# Altium schematic symbol library diploma.SchLib: 43 symbols
Pins are listed as number, name and electrical type; pins without a type are passive.

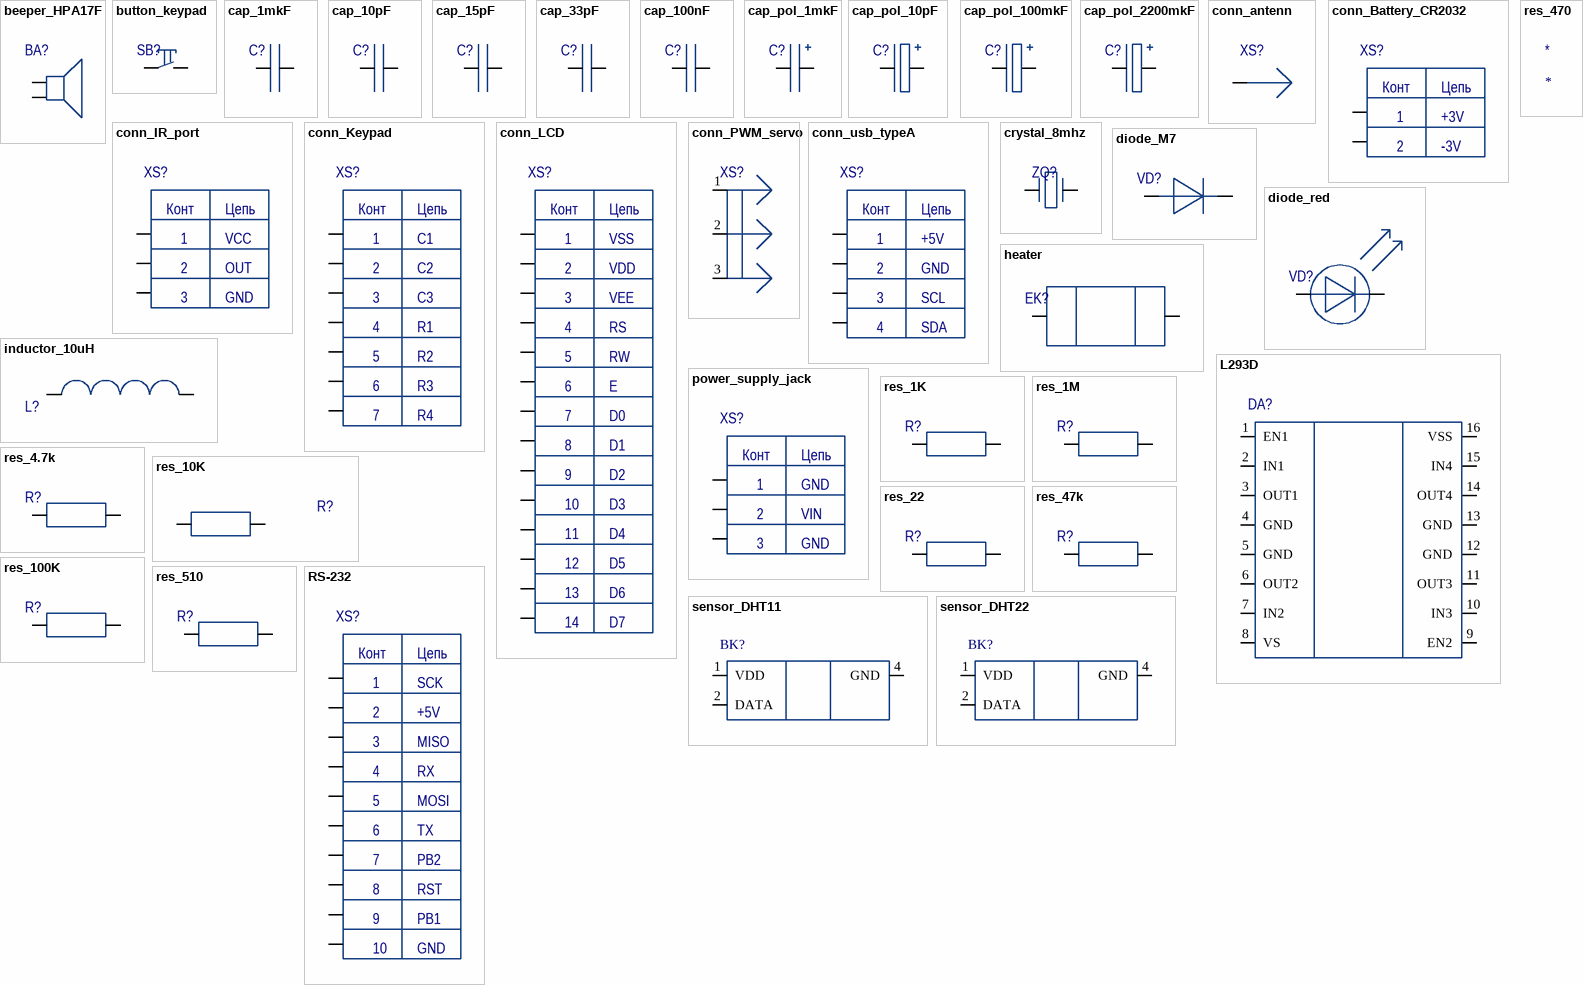
[diagram p0: symbols beeper_HPA17F to sensor_DHT22]

## beeper_HPA17F
designator BA?  (value not drawn)
pins: 1, 2

## button_keypad
designator SB?  (value not drawn)
pins: 1, 2

## cap_1mkF
designator C?  (value not drawn)
pins: 1, 2

## cap_10pF
designator C?  (value not drawn)
pins: 1, 2

## cap_15pF
designator C?  (value not drawn)
pins: 1, 2

## cap_33pF
designator C?  (value not drawn)
pins: 1, 2

## cap_100nF
designator C?  (value not drawn)
pins: 1, 2

## cap_pol_1mkF
designator С?  (value not drawn)
pins: 1, 2

## cap_pol_10pF
designator C?  (value not drawn)
pins: 1, 2

## cap_pol_100mkF
designator C?  (value not drawn)
pins: 1, 2

## cap_pol_2200mkF
designator C?  (value not drawn)
pins: 1, 2

## conn_antenn
designator XS?  (value not drawn)
pins: 1

## conn_Battery_CR2032
designator XS?  (value not drawn)
pins: 1 VCC, 2
text: Конт; Цепь; +3V; -3V

## conn_IR_port
designator XS?, comment VS1833B  (value not drawn)
pins: 1 VCC, 2 OUT, 3 GND
text: Конт; Цепь

## conn_Keypad
designator XS?  (value not drawn)
pins: 1 VSS, 2 VDD, 3 VO, 4 C/D, 5 *RD, 6 *WR, 7 D0
text: Конт; Цепь; C1; C2; C3; R1; R2; R3; R4

## conn_LCD
designator XS?  (value not drawn)
pins: 1 VSS, 2 VDD, 3 VO, 4 C/D, 5 *RD, 6 *WR, 7 D0, 8 D1, 9 D2, 10 D3, 11 D4, 12 D5, 13 D6, 14 D7
text: Конт; Цепь; VEE; RS; RW; E

## conn_PWM_servo
designator XS?  (value not drawn)
pins: 1, 2, 3

## conn_usb_typeA
designator XS?  (value not drawn)
pins: 1 +5V, 2 GND, 3 SCL, 4 SDA
text: Конт; Цепь

## crystal_8mhz
designator ZQ?  (value not drawn)
pins: 1, 2

## diode_M7
designator VD?  (value not drawn)
pins: 1, 2

## diode_red
designator VD?  (value not drawn)
pins: 1, 2

## heater
designator EK?  (value not drawn)
pins: 1, 2

## inductor_10uH
designator L?  (value not drawn)
pins: 1, 2

## L293D
designator DA?  (value not drawn)
pins: 1 EN1, 2 IN1, 3 OUT1, 4 GND, 5 GND, 6 OUT2, 7 IN2, 8 VS, 9 EN2, 10 IN3, 11 OUT3, 12 GND, 13 GND, 14 OUT4, 15 IN4, 16 VSS

## power_supply_jack
designator XS?  (value not drawn)
pins: 1 +5V, 2 GND, 3 SCL
text: Конт; Цепь; VIN

## res_1K
designator R?  (value not drawn)
pins: 1, 2

## res_1M
designator R?  (value not drawn)
pins: 1, 2

## res_4.7k
designator R?  (value not drawn)
pins: 1, 2

## res_10K
designator R?  (value not drawn)
pins: 1, 2

## res_22
designator R?  (value not drawn)
pins: 1, 2

## res_47k
designator R?  (value not drawn)
pins: 1, 2

## res_100K
designator R?  (value not drawn)
pins: 1, 2

## res_470
designator *

## res_510
designator R?  (value not drawn)
pins: 1, 2

## RS-232
designator XS?, comment BH-10  (value not drawn)
pins: 1 VSS, 2 VDD, 3 VO, 4 C/D, 5 *RD, 6 *WR, 7 D0, 8 D1, 9 D2, 10 D3
text: Конт; Цепь; SCK; +5V; MISO; RX; MOSI; TX; PB2; RST; PB1; GND

## sensor_DHT11
designator BK?  (value not drawn)
pins: 1 VDD, 2 DATA, 3 NC hidden, 4 GND

## sensor_DHT22
designator BK?  (value not drawn)
pins: 1 VDD, 2 DATA, 3 NC hidden, 4 GND

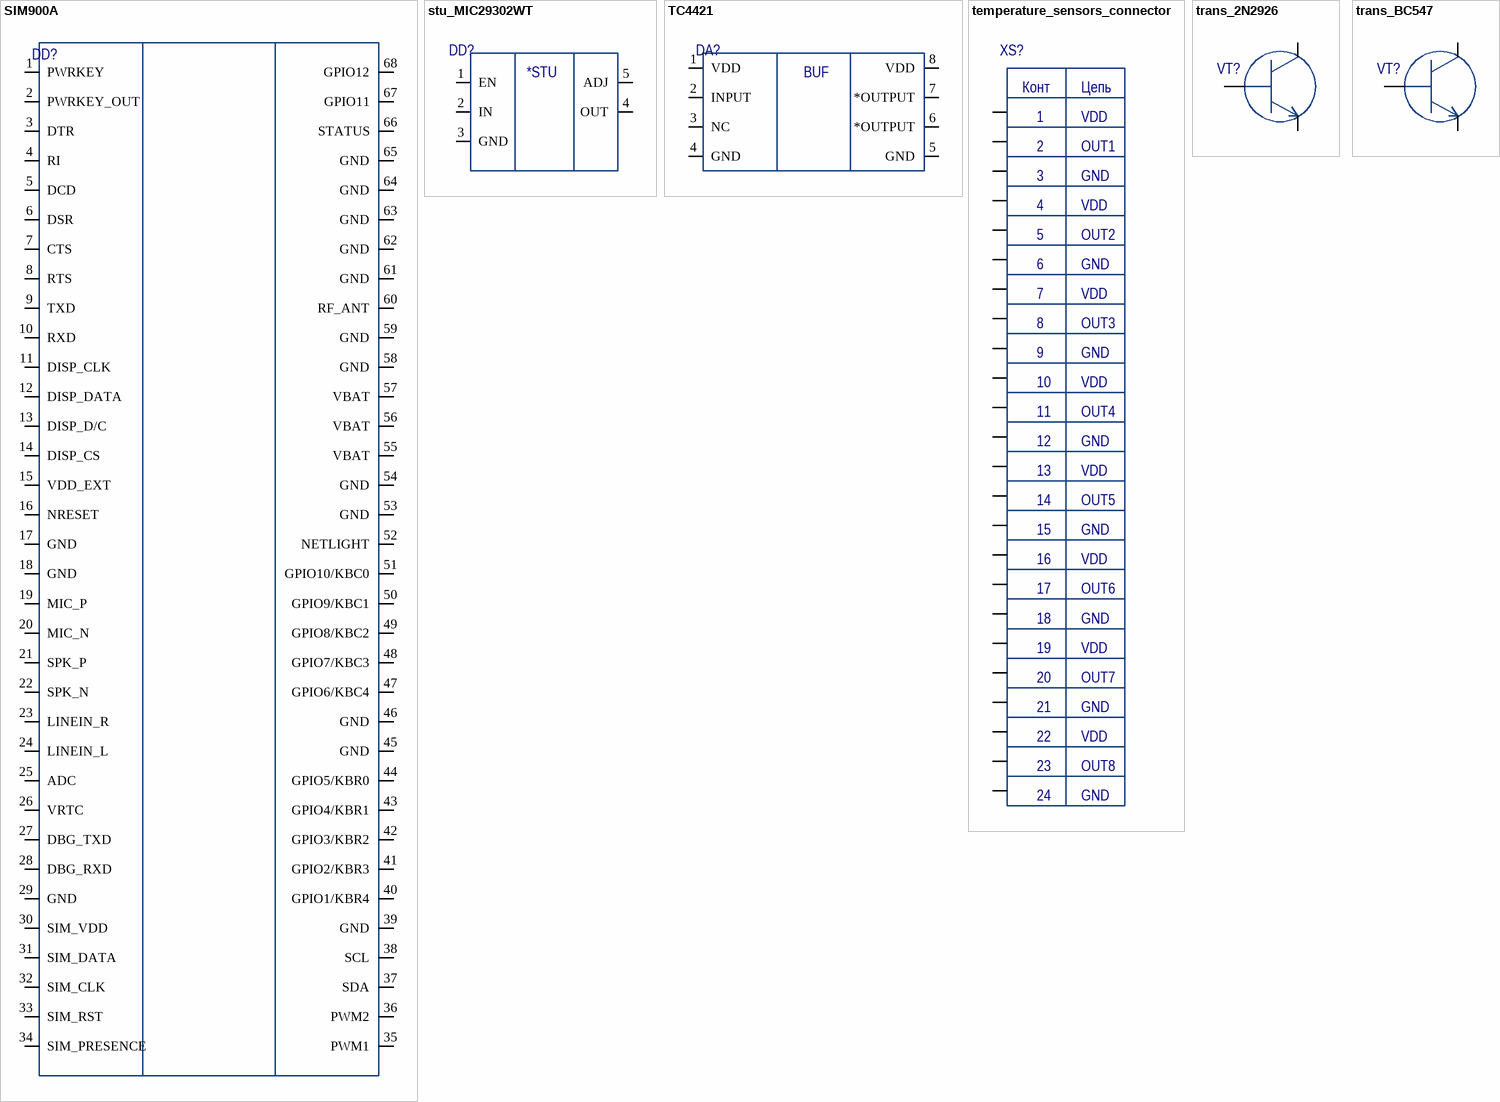
[diagram p1: symbols SIM900A to trans_BC547]

## SIM900A
designator DD?  (value not drawn)
pins: 1 PWRKEY, 2 PWRKEY_OUT, 3 DTR, 4 RI, 5 DCD, 6 DSR, 7 CTS, 8 RTS, 9 TXD, 10 RXD, 11 DISP_CLK, 12 DISP_DATA, 13 DISP_D/C, 14 DISP_CS, 15 VDD_EXT, 16 NRESET, 17 GND, 18 GND, 19 MIC_P, 20 MIC_N, 21 SPK_P, 22 SPK_N, 23 LINEIN_R, 24 LINEIN_L, 25 ADC, 26 VRTC, 27 DBG_TXD, 28 DBG_RXD, 29 GND, 30 SIM_VDD, 31 SIM_DATA, 32 SIM_CLK, 33 SIM_RST, 34 SIM_PRESENCE, 35 PWM1, 36 PWM2, 37 SDA, 38 SCL, 39 GND, 40 GPIO1/KBR4, 41 GPIO2/KBR3, 42 GPIO3/KBR2, 43 GPIO4/KBR1, 44 GPIO5/KBR0, 45 GND, 46 GND, 47 GPIO6/KBC4, 48 GPIO7/KBC3, 49 GPIO8/KBC2, 50 GPIO9/KBC1, 51 GPIO10/KBC0, 52 NETLIGHT, 53 GND, 54 GND, 55 VBAT, 56 VBAT, 57 VBAT, 58 GND, 59 GND, 60 RF_ANT, 61 GND, 62 GND, 63 GND, 64 GND, 65 GND, 66 STATUS, 67 GPIO11, 68 GPIO12

## stu_MIC29302WT
designator DD?  (value not drawn)
pins: 1 EN, 2 IN, 3 GND, 4 OUT, 5 ADJ
text: *STU

## TC4421
designator DA?  (value not drawn)
pins: 1 VDD, 2 INPUT, 3 NC, 4 GND, 5 GND, 6 *OUTPUT, 7 *OUTPUT, 8 VDD
text: BUF

## temperature_sensors_connector
designator XS?, comment ds1013  (value not drawn)
pins: 1 VSS, 2 VDD, 3 VO, 4 C/D, 5 *RD, 6 *WR, 7 D0, 8 D1, 9 D2, 10 D3, 11 D4, 12 D5, 13 D6, 14 D7, 15, 16, 17, 18, 19, 20, 21, 22, 23, 24
text: Конт; Цепь; OUT1; GND; OUT2; OUT3; OUT4; OUT5; OUT6; OUT7; OUT8

## trans_2N2926
designator VT?  (value not drawn)
pins: 1 E, 2 B, 3 C

## trans_BC547
designator VT?  (value not drawn)
pins: 1 E, 2 B, 3 C